# EAGLE library part LPT-HEADER (library common)
3M (TM) Pak 100 4-Wall Header Source: 3M
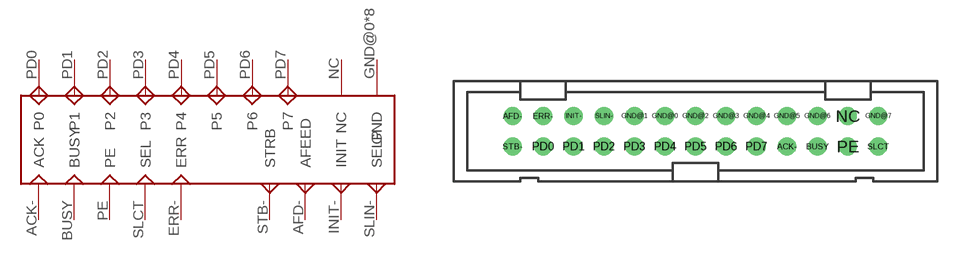
[diagram p11: symbol with the pads of DB25HEAD; footprint DB25HEAD]

Designator prefix X

## LPT-HEADER (OC_FARNELL: unknown; OC_NEWARK: unknown)  [DB25HEAD]
ACK-  ACK  in
AFD-  AFEED
BUSY  BUSY  in
ERR-  ERR  in
GND@0  GND  pwr
GND@1  GND  pwr
GND@2  GND  pwr
GND@3  GND  pwr
GND@4  GND  pwr
GND@5  GND  pwr
GND@6  GND  pwr
GND@7  GND  pwr
INIT-  INIT
NC  NC  nc
PD0  P0  out
PD1  P1  out
PD2  P2  out
PD3  P3  out
PD4  P4  out
PD5  P5  out
PD6  P6  out
PD7  P7  out
PE  PE  in
SLCT  SEL  in
SLIN-  SELP
STB-  STRB

## Footprint DB25HEAD (pad centres in mm)
3M (TM) Pak 100 4-Wall Header Straight Source: 3M
drill 1 pad 1.422: ACK- 7.62,-1.27; AFD- -15.24,1.27; BUSY 10.16,-1.27; ERR- -12.7,1.27; GND@0 -2.54,1.27; GND@1 -5.08,1.27; GND@2 0,1.27; GND@3 2.54,1.27; GND@4 5.08,1.27; GND@5 7.62,1.27; GND@6 10.16,1.27; GND@7 15.24,1.27; INIT- -10.16,1.27; NC 12.7,1.27; PD0 -12.7,-1.27; PD1 -10.16,-1.27; PD2 -7.62,-1.27; PD3 -5.08,-1.27; PD4 -2.54,-1.27; PD5 0,-1.27; PD6 2.54,-1.27; PD7 5.08,-1.27; PE 12.7,-1.27; SLCT 15.24,-1.27; SLIN- -7.62,1.27; STB- -15.24,-1.27